# EAGLE library part B6B-PH-K (library yb-library)
JST PH2.0 Male HEADER 6-Pin
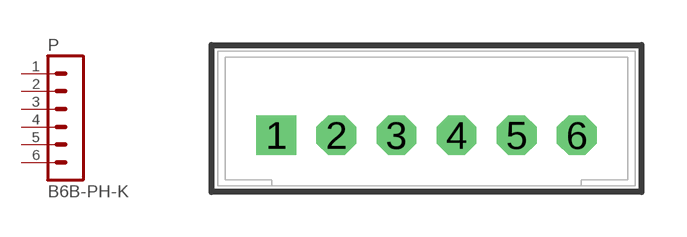
[diagram p18: symbol with the pads of B6B-PH-K; footprint B6B-PH-K]

Designator prefix P

## B6B-PH-K  [B6B-PH-K]
1  1  pas
2  2  pas
3  3  pas
4  4  pas
5  5  pas
6  6  pas

## Footprint B6B-PH-K (pad centres in mm)
JST PH2.0 Header Male 6-Pin
drill 0.813 square: 1 -6.27,0
drill 0.813 octagon: 2 -4.27,0; 3 -2.27,0; 4 -0.27,0; 5 1.73,0; 6 3.73,0